# Altium footprint library Empreintes_LIB_atelier1A.PcbLib: 79 footprints (part 2 of 5)
Each footprint in its own frame and in the unit in brackets; x right, y up, seen from the top. Pads: shape width x height; smd on the part's side, far side on the other; paste and mask are expansions set on the pad; w line width, h text height; cw(c..) or ccw(c..) is an arc to the next point about the centre after c.
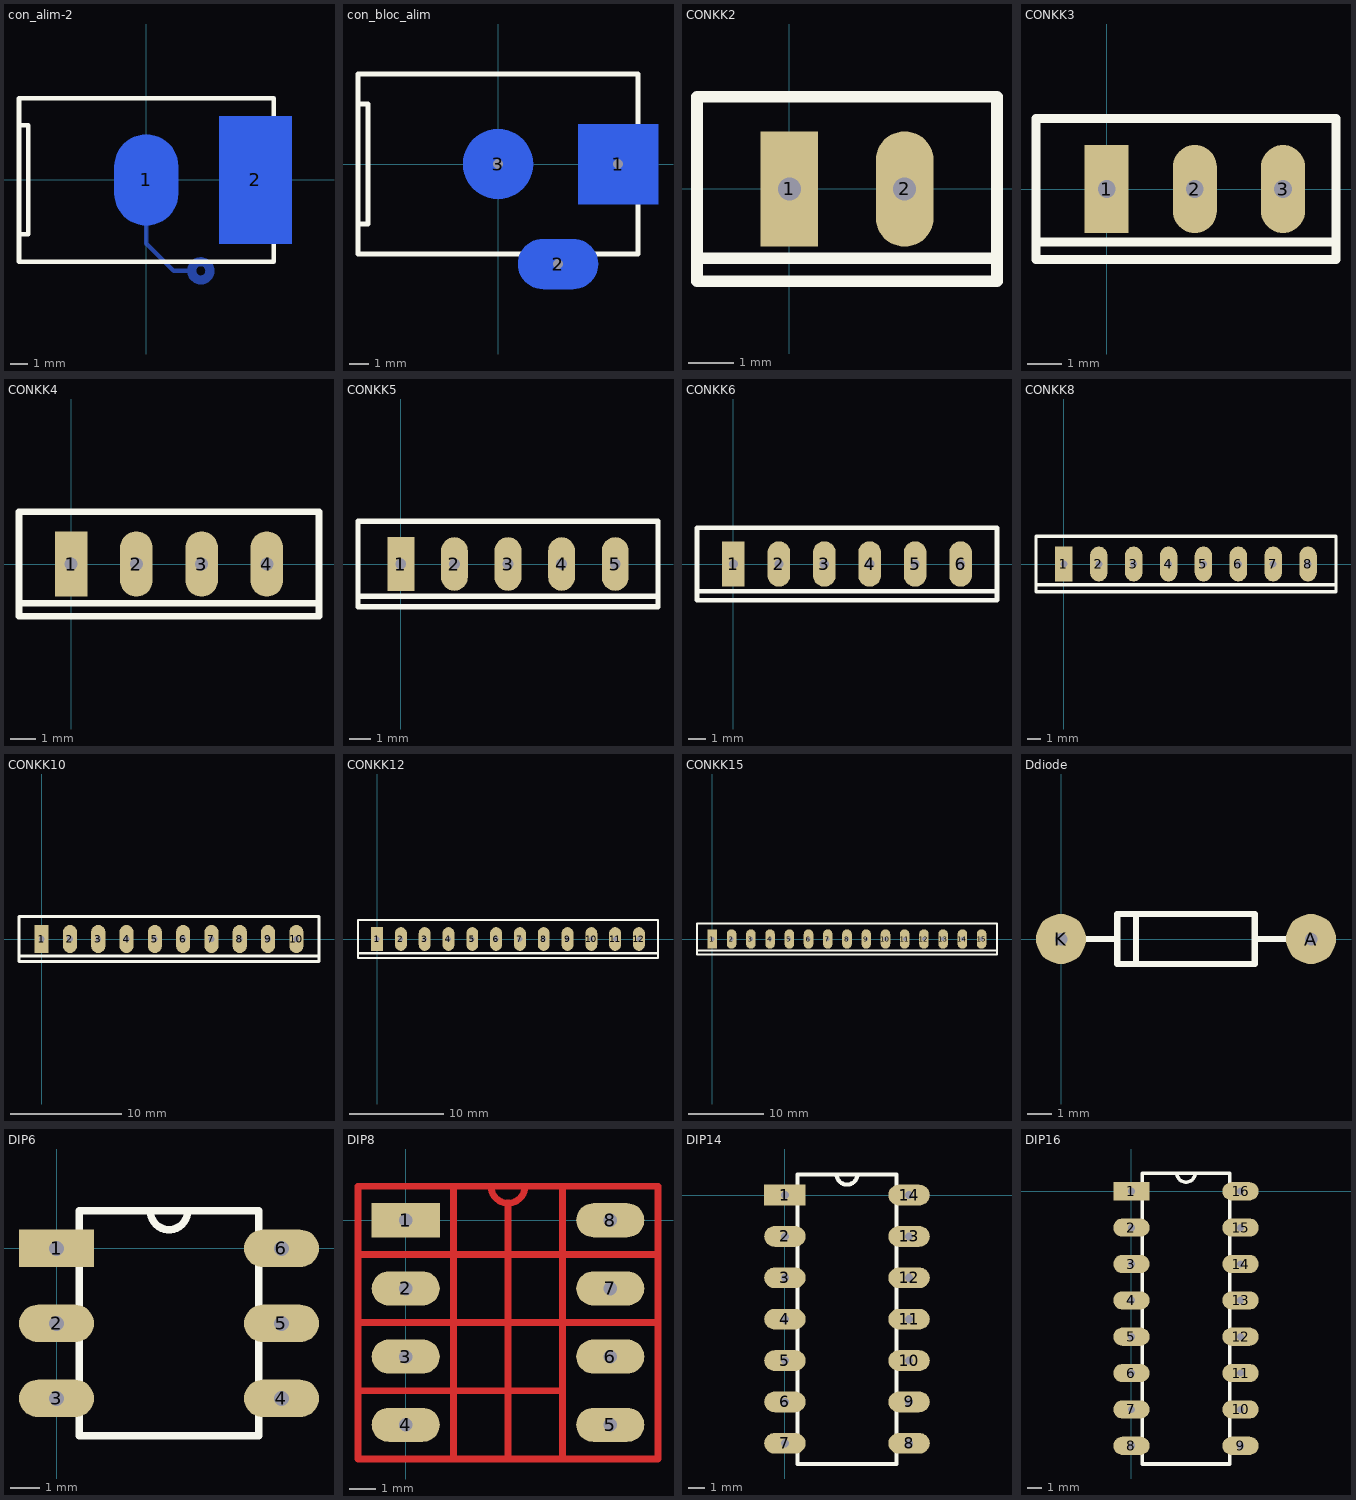
[diagram p1: the footprints below, top view; thin cyan lines are the x and y axes]

## con_alim-2 [mil]
pads (2):
  oval 140x200 smd far side: 1(0,0)
  rect 160x280 smd far side: 2(240,0)
BottomLayer:
  circle w20: c120,-200 r20
  lines w10: 0,-80 0,-140 60,-200 100,-200
TopOverlay:
  lines w10: -280,-120 -260,-120 -260,120 -280,120 ; -280,-180 -280,140 -280,180 -100,180 280,180 280,-180 -140,-180 -280,-180

## con_bloc_alim [mil]
pads (3):
  rect 160x160 on Bottom hole 20: 1(240,0)
  oval 160x100 on Bottom hole 20: 2(120,-200)
  round 140 on Bottom hole 20: 3(0,0)
TopOverlay:
  lines w10: -280,-120 -260,-120 -260,120 -280,120 ; -280,-180 -140,-180 280,-180 280,180 -100,180 -280,180 -280,140 -280,-180

## CONKK2 [mil]
pads (2):
  rect 50x100 hole 20: 1(0,0)
  oval 50x100 hole 20: 2(100,0)
TopOverlay:
  lines w10: -80,-60 180,-60 ; -80,-80 -80,80 180,80 180,-80 -70,-80 -80,-80

## CONKK3 [mil]
pads (3):
  rect 50x100 hole 20: 1(0,0)
  oval 50x100 hole 20: 2(100,0) 3(200,0)
TopOverlay:
  lines w10: -80,-60 260,-60 ; -80,-80 -80,80 260,80 260,-80 -70,-80 -80,-80

## CONKK4 [mil]
pads (4):
  rect 50x100 hole 20: 1(0,0)
  oval 50x100 hole 20: 2(100,0) 3(200,0) 4(300,0)
TopOverlay:
  lines w10: -80,-60 380,-60 ; -80,-80 -70,-80 380,-80 380,80 -80,80 -80,-80

## CONKK5 [mil]
pads (5):
  rect 50x100 hole 20: 1(0,0)
  oval 50x100 hole 20: 2(100,0) 3(200,0) 4(300,0) 5(400,0)
TopOverlay:
  lines w10: -80,-60 480,-60 ; -80,-80 -70,-80 480,-80 480,80 -80,80 -80,-80

## CONKK6 [mil]
pads (6):
  rect 50x100 hole 20: 1(0,0)
  oval 50x100 hole 20: 2(100,0) 3(200,0) 4(300,0) 5(400,0) 6(500,0)
TopOverlay:
  lines w10: -80,-60 580,-60 ; -80,-80 -80,80 580,80 580,-80 -70,-80 -80,-80

## CONKK8 [mil]
pads (8):
  rect 50x100 hole 20: 1(0,0)
  oval 50x100 hole 20: 2(100,0) 3(200,0) 4(300,0) 5(400,0) 6(500,0) 7(600,0) 8(700,0)
TopOverlay:
  lines w10: -80,-60 780,-60 ; -80,-80 -80,80 780,80 780,-80 -70,-80 -80,-80

## CONKK10 [mil]
pads (10):
  rect 50x100 hole 20: 1(0,0)
  oval 50x100 hole 20: 2(100,0) 3(200,0) 4(300,0) 5(400,0) 6(500,0) 7(600,0) 8(700,0) 9(800,0) 10(900,0)
TopOverlay:
  lines w10: -80,-60 980,-60 ; -80,-80 -80,80 980,80 980,-80 -70,-80 -80,-80

## CONKK12 [mil]
pads (12):
  rect 50x100 hole 20: 1(0,0)
  oval 50x100 hole 20: 2(100,0) 3(200,0) 4(300,0) 5(400,0) 6(500,0) 7(600,0) 8(700,0) 9(800,0) 10(900,0) 11(1000,0) 12(1100,0)
TopOverlay:
  lines w10: -80,-60 1180,-60 ; -80,-80 -70,-80 1180,-80 1180,80 -80,80 -80,-80

## CONKK15 [mil]
pads (15):
  rect 50x100 hole 20: 1(0,0)
  oval 50x100 hole 20: 2(100,0) 3(200,0) 4(300,0) 5(400,0) 6(500,0) 7(600,0) 8(700,0) 9(800,0) 10(900,0) 11(1000,0) 12(1100,0) 13(1200,0) 14(1300,0) 15(1400,0)
TopOverlay:
  lines w10: -80,-60 1480,-60 ; -80,-80 -70,-80 1480,-80 1480,80 -80,80 -80,-80

## Ddiode [mil]
pads (2):
  round 80 hole 20: A(400,0) K(0,0)
TopOverlay:
  lines w10: 0,0 85,0 ; 120,-40 120,40 ; 315,0 400,0 ; 90,-40 90,40 310,40 310,-40 90,-40

## DIP6 [mil]
pads (6):
  rect 100x50 hole 20: 1(0,0)
  oval 100x50 hole 20: 2(0,-100) 3(0,-200) 4(300,-200) 5(300,-100) 6(300,0)
TopOverlay:
  lines w10: 85,-250 215,-250 ; 85,50 125,50 ccw(c150,50) 175,50 215,50 ; 30,-250 30,50 270,50 270,-250 30,-250

## DIP8 [mil]
pads (8):
  rect 100x50 hole 20: 1(0,0)
  oval 100x50 hole 20: 2(0,-100) 3(0,-200) 4(0,-300) 5(300,-300) 6(300,-200) 7(300,-100) 8(300,0)
TopLayer:
  lines w10: 70,-350 70,50 ; 85,-350 215,-350 ; 85,50 125,50 ccw(c150,50) 175,50 215,50 ; 150,-350 150,20 ; 230,-250 30,-250 -70,-250 ; -70,-250 -70,-350 30,-350 230,-350 ; -70,-250 -70,-150 ; -70,-150 30,-150 270,-150 370,-150 ; -70,-150 -70,-50 ; -70,-50 30,-50 270,-50 370,-50 ; -70,-50 -70,50 30,50 230,50 ; 230,-350 230,50 ; 230,-350 370,-350 370,-250 370,-150 ; 230,50 320,50 370,50 370,-50 ; 370,-150 370,-50

## DIP14 [mil]
pads (14):
  rect 100x50 hole 20: 1(0,0)
  oval 100x50 hole 20: 2(0,-100) 3(0,-200) 4(0,-300) 5(0,-400) 6(0,-500) 7(0,-600) 8(300,-600) 9(300,-500) 10(300,-400) 11(300,-300) 12(300,-200) 13(300,-100) 14(300,0)
TopOverlay:
  lines w10: 85,-650 215,-650 ; 85,50 125,50 ccw(c150,50) 175,50 215,50 ; 270,40 270,50 ; 270,50 270,-650 30,-650 30,50 270,50

## DIP16 [mil]
pads (16):
  rect 100x50 hole 20: 1(0,0)
  oval 100x50 hole 20: 2(0,-100) 3(0,-200) 4(0,-300) 5(0,-400) 6(0,-500) 7(0,-600) 8(0,-700) 9(300,-700) 10(300,-600) 11(300,-500) 12(300,-400) 13(300,-300) 14(300,-200) 15(300,-100) 16(300,0)
TopOverlay:
  lines w10: 85,-750 215,-750 ; 85,50 125,50 ccw(c150,50) 175,50 215,50 ; 30,-750 270,-750 270,50 30,50 30,-750